# EAGLE library part SYM-25DLHW (library minicircuits)
Fezquency mixer Level 10 LO/RF: 40-2500 MHz IF: DC-1000 MHz LO power level: 10 dBm Max converion loss: mid-band: 7.5 dB Total range: 8.8 dB Min LO-RF isolation: L: 28 dB M: 25 dB U: 22 dB Min LO-IF isolation: L: 25 dB M: 25 dB U: 21 dB Note: L=low range (fL to 10fL), M=mid range (10 fL to fU/2), U=upper range (fU/2 to fU)
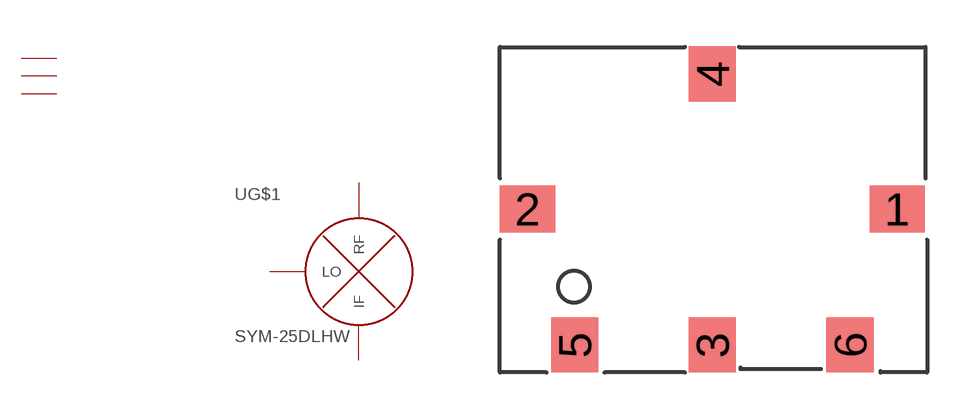
[diagram p10: symbol with the pads of TTT167; footprint TTT167]

Designator prefix -; gates G$1=RF-MIXER G$2=GND G$3=GND G$4=GND

## SYM-25DLHW  [TTT167]
1  G$1:RF
2  G$1:LO
3  G$1:IF
4  G$2:GND  pwr
5  G$3:GND  pwr
6  G$4:GND  pwr

## Footprint TTT167 (pad centres in mm)
TTT167 case style http://www.minicircuits.com/cgi-bin/inquery.cgi?querystring=ttt167&searchtype=case
smd 1.778 x 1.524: 1 12.827,5.283; 2 0.889,5.283
smd 1.524 x 1.778: 3 6.858,0.889; 4 6.858,9.652; 5 2.413,0.889; 6 11.303,0.889